# EAGLE library part 74HC393D (library NXP_By_element14_Batch_1)
Dual 4-bit binary ripple counter
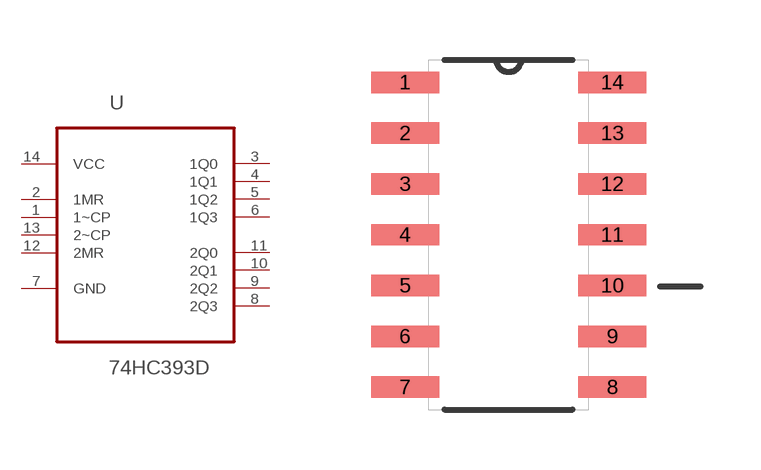
[diagram p81: symbol with the pads of SOIC127P600X175-14N; footprint SOIC127P600X175-14N]

Designator prefix U

## 74HC393D (MPN: 74HC393D; OC_FARNELL: 1085344; OC_NEWARK: 99K0595; P1I: o; PACKAGE: SOIC-14; SUPPLIER: NXP)  [SOIC127P600X175-14N]
1  1~CP  in
2  1MR  in
3  1Q0  out
4  1Q1  out
5  1Q2  out
6  1Q3  out
7  GND  pas
8  2Q3  out
9  2Q2  out
10  2Q1  out
11  2Q0  out
12  2MR  in
13  2~CP  in
14  VCC  pwr

## Footprint SOIC127P600X175-14N (pad centres in mm)
smd 1.702 x 0.533: 1 -2.591,3.81; 2 -2.591,2.54; 3 -2.591,1.27; 4 -2.591,0; 5 -2.591,-1.27; 6 -2.591,-2.54; 7 -2.591,-3.81; 8 2.591,-3.81; 9 2.591,-2.54; 10 2.591,-1.27; 11 2.591,0; 12 2.591,1.27; 13 2.591,2.54; 14 2.591,3.81